# EAGLE library part EC11E09244AQ (library ALPS - EC11E1820402)
EC11E09244AQ or EC11E0 encoder with switch
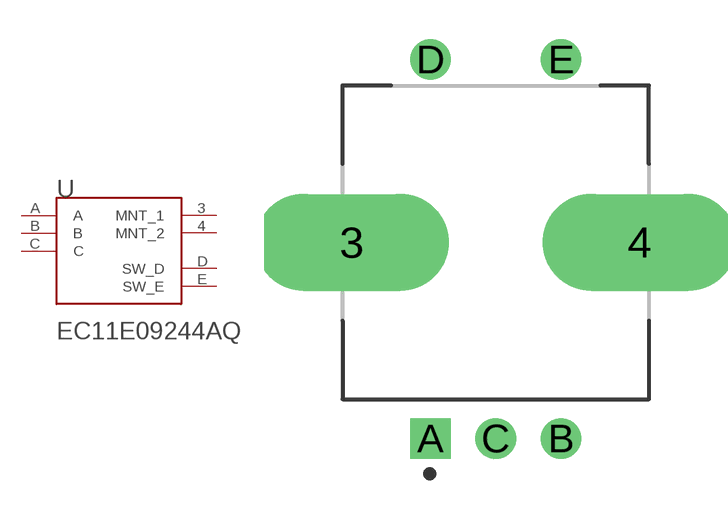
[diagram p1: symbol with the pads of ALPS_EC11E1820402_0; footprint ALPS_EC11E1820402_0]

Designator prefix -

## EC11E09244AQ  [ALPS_EC11E1820402_0]
3  MNT_1
4  MNT_2
A  A
B  B
C  C
D  SW_D
E  SW_E

## Footprint ALPS_EC11E1820402_0 (pad centres in mm)
Incremental Type Encoder, 11mm Size Metal Shaft Type EC11
drill 2.7 pad 2.9 long: 3 -5.5,0; 4 5.5,0
drill 1 pad 1.55 square: A -2.5,-7.5
drill 1 pad 1.55: B 2.5,-7.5; C 0,-7.5; D -2.5,7; E 2.5,7